# EAGLE library part LEDMATRIX5X7 (library SmallRoomLabs)
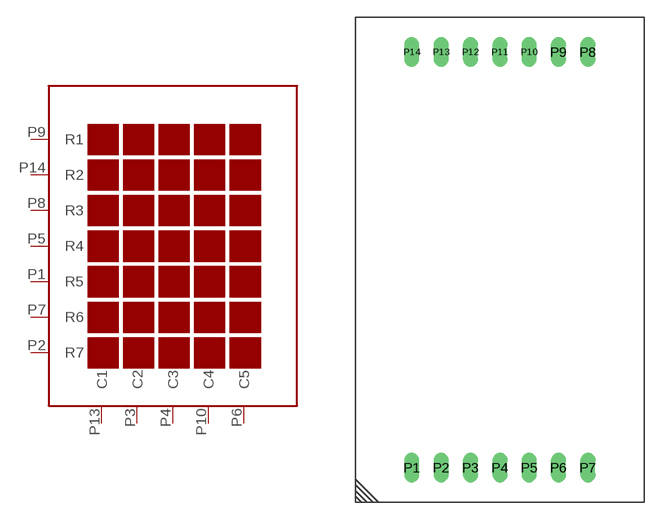
[diagram p7: symbol with the pads of LEDMATRIX5X7_42MM; footprint LEDMATRIX5X7_42MM]

Designator prefix -

## LEDMATRIX5X7SQUARE42MM  [LEDMATRIX5X7_42MM]
P1  R5
P2  R7
P3  C2
P4  C3
P5  R4
P6  C5
P7  R6
P8  R3
P9  R1
P10  C4
P13  C1
P14  R2

## Footprint LEDMATRIX5X7_42MM (pad centres in mm)
drill 0.8 long: P1 -7.62,-18; P2 -5.08,-18; P3 -2.54,-18; P4 0,-18; P5 2.54,-18; P6 5.08,-18; P7 7.62,-18; P8 7.62,18; P9 5.08,18; P10 2.54,18; P11 0,18; P12 -2.54,18; P13 -5.08,18; P14 -7.62,18